# EAGLE library part MC10H125PG (library ON Semiconductor_By_element14_Batch_1)
Quad MECL-to-TTL Translator
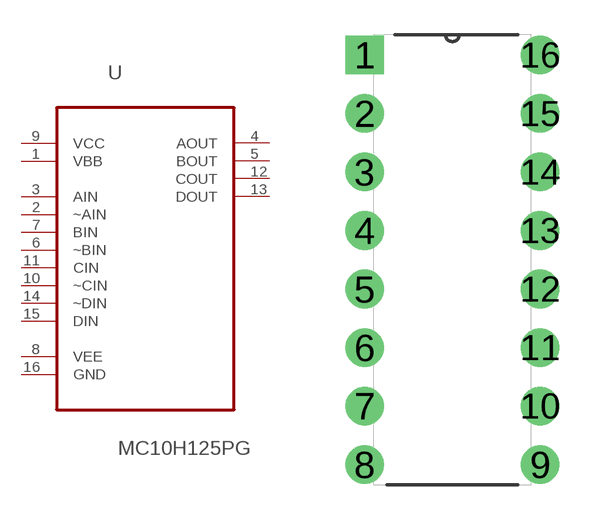
[diagram p183: symbol with the pads of DIP254P762X444-16; footprint DIP254P762X444-16]

Designator prefix U

## MC10H125PG (MPN: MC10H125PG; OC_FARNELL: 1607887; OC_NEWARK: 45J0876; P1I: o; PACKAGE: PDIP-16; SUPPLIER: On semiconductors)  [DIP254P762X444-16]
1  VBB  pas
2  ~AIN  in
3  AIN  in
4  AOUT  out
5  BOUT  out
6  ~BIN  in
7  BIN  in
8  VEE  pwr
9  VCC  pwr
10  ~CIN  in
11  CIN  in
12  COUT  out
13  DOUT  out
14  ~DIN  in
15  DIN  in
16  GND  pas

## Footprint DIP254P762X444-16 (pad centres in mm)
drill 1.118 square: 1 -7.62,17.78
drill 1.118: 2 -7.62,15.24; 3 -7.62,12.7; 4 -7.62,10.16; 5 -7.62,7.62; 6 -7.62,5.08; 7 -7.62,2.54; 8 -7.62,0; 9 0,0; 10 0,2.54; 11 0,5.08; 12 0,7.62; 13 0,10.16; 14 0,12.7; 15 0,15.24; 16 0,17.78